# Altium integrated library HARTING DIN 41612 Type M-Flat.IntLib: 12 symbols
Pins are listed as number, name and electrical type; pins without a type are passive.

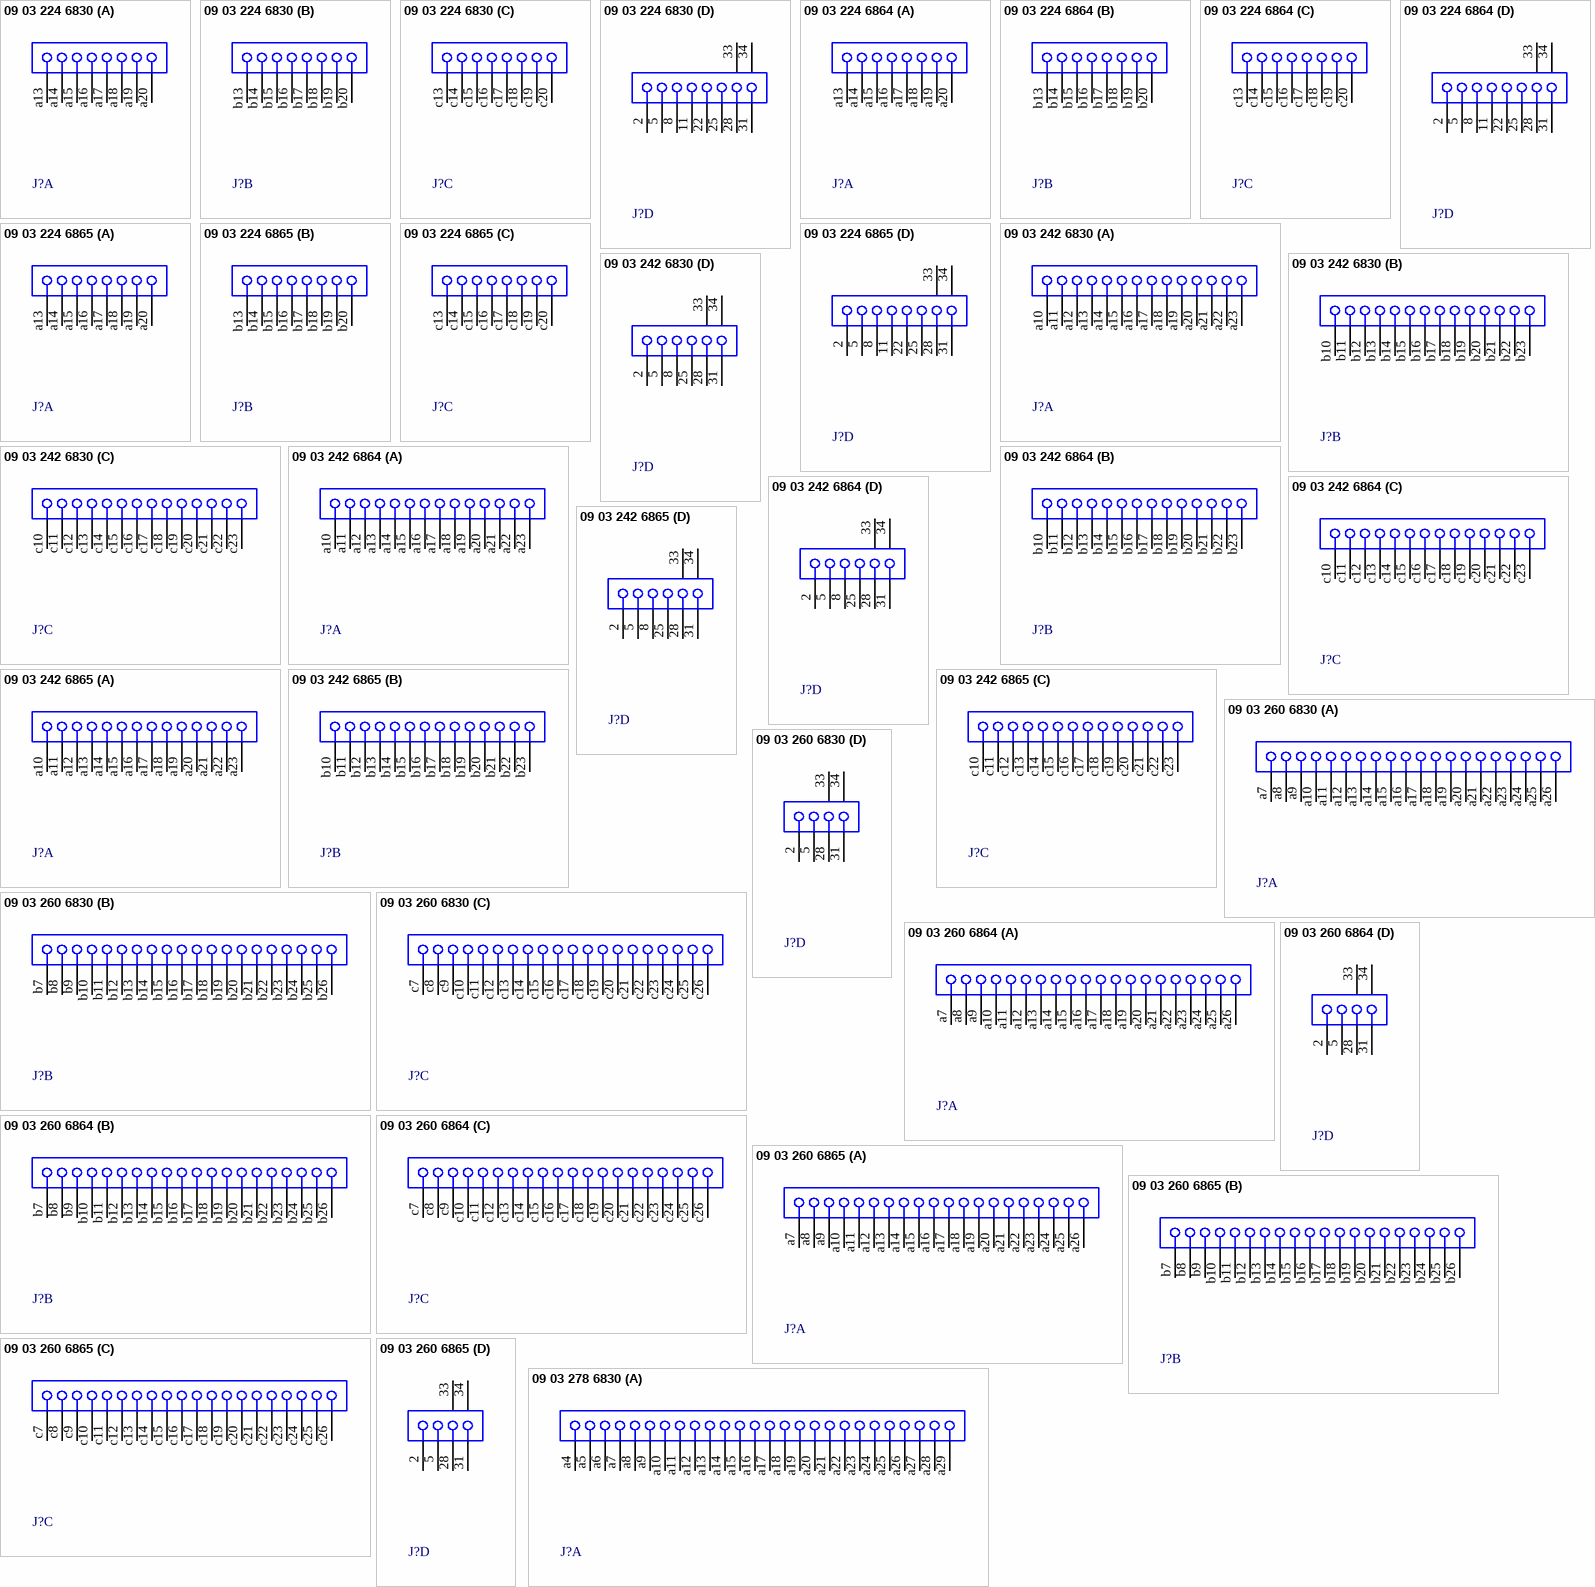
[diagram p0: symbols 09 03 224 6830 to 09 03 278 6830]

## 09 03 224 6830
designator J?
Eurocard DIN 41612, Type M-Flat, 24+8 High Current/Coax, Rows a+b+c, Performance level 2, Female, Lead 4.5 mm, Pitch 2.54 mm; Note: Hole Diameter is to be co-ordinated with the respective contact; DrillSize: Corresponds to nominal value.; Published: 6-Oct-2005; DatasheetDocument: 03-Jun-2003; PackageDocument: 12-Feb-2003; PackageReference: 0903224x830; Publisher: Altium Limited; ComponentLink1Description: Manufacturer Link; ComponentLink1URL: http://www.harting.com/; ComponentLink2Description: Packaging Specification; ComponentLink2URL: http://www.harkis.harting.com/_gds/pdf/TB_0903224x830_BL01_R30278.pdf
footprint 0903224x830 (Connector; DIN 41612, Type M-Flat, Thru-Hole; Rows a+b+c, 24 Position; Vertical)
signal-integrity model DIN 41612
part A pins: a13, a14, a15, a16, a17, a18, a19, a20
part B pins: b13, b14, b15, b16, b17, b18, b19, b20
part C pins: c13, c14, c15, c16, c17, c18, c19, c20
part D pins: 2, 5, 8, 11, 22, 25, 28, 31, 33 MH1, 34 MH2

## 09 03 224 6864
designator J?
Eurocard DIN 41612, Type M-Flat, 24+8 High Current/Coax, Rows a+b+c, Performance level 2, Female, Lead 2.9 mm, Pitch 2.54 mm; Note: Hole Diameter is to be co-ordinated with the respective contact; DrillSize: Corresponds to nominal value.; Published: 6-Oct-2005; DatasheetDocument: 02-Jun-2003; PackageDocument: 12-Feb-2003; PackageReference: 0903224x864; Publisher: Altium Limited; ComponentLink1Description: Manufacturer Link; ComponentLink1URL: http://www.harting.com/; ComponentLink2Description: Packaging Specification; ComponentLink2URL: http://www.harkis.harting.com/_gds/pdf/TB_0903224x864_BL01_R30278.pdf
footprint 0903224x864 (Connector; DIN 41612, Type M-Flat, Thru-Hole; Rows a+b+c, 24 Position; Vertical)
signal-integrity model DIN 41612
part A pins: a13, a14, a15, a16, a17, a18, a19, a20
part B pins: b13, b14, b15, b16, b17, b18, b19, b20
part C pins: c13, c14, c15, c16, c17, c18, c19, c20
part D pins: 2, 5, 8, 11, 22, 25, 28, 31, 33 MH1, 34 MH2

## 09 03 224 6865
designator J?
Eurocard DIN 41612, Type M-Flat, 24+8 High Current/Coax, Rows a+b+c, Performance level 2, Female, Lead 4.5 mm, Pitch 2.54 mm; Note: Hole Diameter is to be co-ordinated with the respective contact; DrillSize: Corresponds to nominal value.; Published: 6-Oct-2005; DatasheetDocument: 02-Jun-2003; PackageDocument: 13-Feb-2003; PackageReference: 0903224x865; Publisher: Altium Limited; ComponentLink1Description: Manufacturer Link; ComponentLink1URL: http://www.harting.com/; ComponentLink2Description: Packaging Specification; ComponentLink2URL: http://www.harkis.harting.com/_gds/pdf/TB_0903224x865_BL01_R30278.pdf
footprint 0903224x865 (Connector; DIN 41612, Type M-Flat, Thru-Hole; Rows a+b+c, 24 Position; Vertical)
signal-integrity model DIN 41612
part A pins: a13, a14, a15, a16, a17, a18, a19, a20
part B pins: b13, b14, b15, b16, b17, b18, b19, b20
part C pins: c13, c14, c15, c16, c17, c18, c19, c20
part D pins: 2, 5, 8, 11, 22, 25, 28, 31, 33 MH1, 34 MH2

## 09 03 242 6830
designator J?
Eurocard DIN 41612, Type M-Flat, 42+6 High Current/Coax, Rows a+b+c, Performance level 2, Female, Lead 4.5 mm, Pitch 2.54 mm; Note: Hole Diameter is to be co-ordinated with the respective contact; DrillSize: Corresponds to nominal value.; Published: 6-Oct-2005; DatasheetDocument: 03-Jun-2003; PackageDocument: 03-Jun-2003; PackageReference: 0903242x830; Publisher: Altium Limited; ComponentLink1Description: Manufacturer Link; ComponentLink1URL: http://www.harting.com/
footprint 0903242x830 (Connector; DIN 41612, Type M-Flat, Thru-Hole; Rows a+b+c, 42 Position; Vertical)
signal-integrity model DIN 41612
part A pins: a10, a11, a12, a13, a14, a15, a16, a17, a18, a19, a20, a21, a22, a23
part B pins: b10, b11, b12, b13, b14, b15, b16, b17, b18, b19, b20, b21, b22, b23
part C pins: c10, c11, c12, c13, c14, c15, c16, c17, c18, c19, c20, c21, c22, c23
part D pins: 2, 5, 8, 25, 28, 31, 33 MH1 "Mounting Fixture", 34 MH2 "Mounting Fixture"

## 09 03 242 6864
designator J?
Eurocard DIN 41612, Type M-Flat, 42+6 High Current/Coax, Rows a+b+c, Performance level 2, Female, Lead 2.9 mm, Pitch 2.54 mm; Note: Hole Diameter is to be co-ordinated with the respective contact; DrillSize: Corresponds to nominal value.; Published: 6-Oct-2005; DatasheetDocument: 02-Jun-2003; PackageDocument: 02-Jun-2003; PackageReference: 0903242x864; Publisher: Altium Limited; ComponentLink1Description: Manufacturer Link; ComponentLink1URL: http://www.harting.com/; ComponentLink2Description: Packaging Specification; ComponentLink2URL: http://www.harkis.harting.com/_gds/pdf/TB_0903242x864_BL01_R31344.pdf
footprint 0903242x864 (Connector; DIN 41612, Type M-Flat, Thru-Hole; Rows a+b+c, 42 Position; Vertical)
signal-integrity model DIN 41612
part A pins: a10, a11, a12, a13, a14, a15, a16, a17, a18, a19, a20, a21, a22, a23
part B pins: b10, b11, b12, b13, b14, b15, b16, b17, b18, b19, b20, b21, b22, b23
part C pins: c10, c11, c12, c13, c14, c15, c16, c17, c18, c19, c20, c21, c22, c23
part D pins: 2, 5, 8, 25, 28, 31, 33 MH1 "Mounting Fixture", 34 MH2 "Mounting Fixture"

## 09 03 242 6865
designator J?
Eurocard DIN 41612, Type M-Flat, 42+6 High Current/Coax, Rows a+b+c, Performance level 2, Female, Lead 4.5 mm, Pitch 2.54 mm; Note: Hole Diameter is to be co-ordinated with the respective contact; DrillSize: Corresponds to nominal value.; Published: 6-Oct-2005; DatasheetDocument: 02-Jun-2003; PackageDocument: 02-Jun-2003; PackageReference: 0903242x865; Publisher: Altium Limited; ComponentLink1Description: Manufacturer Link; ComponentLink1URL: http://www.harting.com/; ComponentLink2Description: Packaging Specification; ComponentLink2URL: http://www.harkis.harting.com/_gds/pdf/TB_0903242x865_BL01_R31344.pdf
footprint 0903242x865 (Connector; DIN 41612, Type M-Flat, Thru-Hole; Rows a+b+c, 42 Position; Vertical)
signal-integrity model DIN 41612
part A pins: a10, a11, a12, a13, a14, a15, a16, a17, a18, a19, a20, a21, a22, a23
part B pins: b10, b11, b12, b13, b14, b15, b16, b17, b18, b19, b20, b21, b22, b23
part C pins: c10, c11, c12, c13, c14, c15, c16, c17, c18, c19, c20, c21, c22, c23
part D pins: 2, 5, 8, 25, 28, 31, 33 MH1 "Mounting Fixture", 34 MH2 "Mounting Fixture"

## 09 03 260 6830
designator J?
Eurocard DIN 41612, Type M-Flat, 60+4 High Current/Coax, Rows a+b+c, Performance level 2, Female, Lead 4.5 mm, Pitch 2.54 mm; Note: Hole Diameter is to be co-ordinated with the respective contact; DrillSize: Corresponds to nominal value.; Published: 6-Oct-2005; DatasheetDocument: 03-Jun-2003; PackageDocument: 12-Feb-2003; PackageReference: 0903260x830; Publisher: Altium Limited; ComponentLink1Description: Manufacturer Link; ComponentLink1URL: http://www.harting.com/; ComponentLink2Description: Packaging Specification; ComponentLink2URL: http://www.harkis.harting.com/_gds/pdf/TB_0903260x830_BL01_R30320.pdf
footprint 0903260x830 (Connector; DIN 41612, Type M-Flat, Thru-Hole; Rows a+b+c, 60 Position; Vertical)
signal-integrity model DIN 41612
part A pins: a7, a8, a9, a10, a11, a12, a13, a14, a15, a16, a17, a18, a19, a20, a21, a22, a23, a24, a25, a26
part B pins: b7, b8, b9, b10, b11, b12, b13, b14, b15, b16, b17, b18, b19, b20, b21, b22, b23, b24, b25, b26
part C pins: c7, c8, c9, c10, c11, c12, c13, c14, c15, c16, c17, c18, c19, c20, c21, c22, c23, c24, c25, c26
part D pins: 2, 5, 28, 31, 33 MH1 "Mounting Fixture", 34 MH2 "Mounting Fixture"

## 09 03 260 6864
designator J?
Eurocard DIN 41612, Type M-Flat, 60+4 High Current/Coax, Rows a+b+c, Performance level 2, Female, Lead 2.9 mm, Pitch 2.54 mm; Note: Hole Diameter is to be co-ordinated with the respective contact; DrillSize: Corresponds to nominal value.; Published: 6-Oct-2005; DatasheetDocument: 02-Jun-2003; PackageDocument: 13-Feb-2003; PackageReference: 0903260x864; Publisher: Altium Limited; ComponentLink1Description: Manufacturer Link; ComponentLink1URL: http://www.harting.com/; ComponentLink2Description: Packaging Specification; ComponentLink2URL: http://www.harkis.harting.com/_gds/pdf/TB_0903260x864_BL01_R30320.pdf
footprint 0903260x864 (Connector; DIN 41612, Type M-Flat, Thru-Hole; Rows a+b+c, 60 Position; Vertical)
signal-integrity model DIN 41612
part A pins: a7, a8, a9, a10, a11, a12, a13, a14, a15, a16, a17, a18, a19, a20, a21, a22, a23, a24, a25, a26
part B pins: b7, b8, b9, b10, b11, b12, b13, b14, b15, b16, b17, b18, b19, b20, b21, b22, b23, b24, b25, b26
part C pins: c7, c8, c9, c10, c11, c12, c13, c14, c15, c16, c17, c18, c19, c20, c21, c22, c23, c24, c25, c26
part D pins: 2, 5, 28, 31, 33 MH1 "Mounting Fixture", 34 MH2 "Mounting Fixture"

## 09 03 260 6865
designator J?
Eurocard DIN 41612, Type M-Flat, 60+4 High Current/Coax, Rows a+b+c, Performance level 2, Female, Lead 4.5 mm, Pitch 2.54 mm; Note: Hole Diameter is to be co-ordinated with the respective contact; DrillSize: Corresponds to nominal value.; Published: 6-Oct-2005; DatasheetDocument: 02-Jun-2003; PackageDocument: 13-Feb-2003; PackageReference: 0903260x865; Publisher: Altium Limited; ComponentLink1Description: Manufacturer Link; ComponentLink1URL: http://www.harting.com/; ComponentLink2Description: Packaging Specification; ComponentLink2URL: http://www.harkis.harting.com/_gds/pdf/TB_0903260x865_BL01_R30320.pdf
footprint 0903260x865 (Connector; DIN 41612, Type M-Flat, Thru-Hole; Rows a+b+c, 60 Position; Vertical)
signal-integrity model DIN 41612
part A pins: a7, a8, a9, a10, a11, a12, a13, a14, a15, a16, a17, a18, a19, a20, a21, a22, a23, a24, a25, a26
part B pins: b7, b8, b9, b10, b11, b12, b13, b14, b15, b16, b17, b18, b19, b20, b21, b22, b23, b24, b25, b26
part C pins: c7, c8, c9, c10, c11, c12, c13, c14, c15, c16, c17, c18, c19, c20, c21, c22, c23, c24, c25, c26
part D pins: 2, 5, 28, 31, 33 MH1 "Mounting Fixture", 34 MH2 "Mounting Fixture"

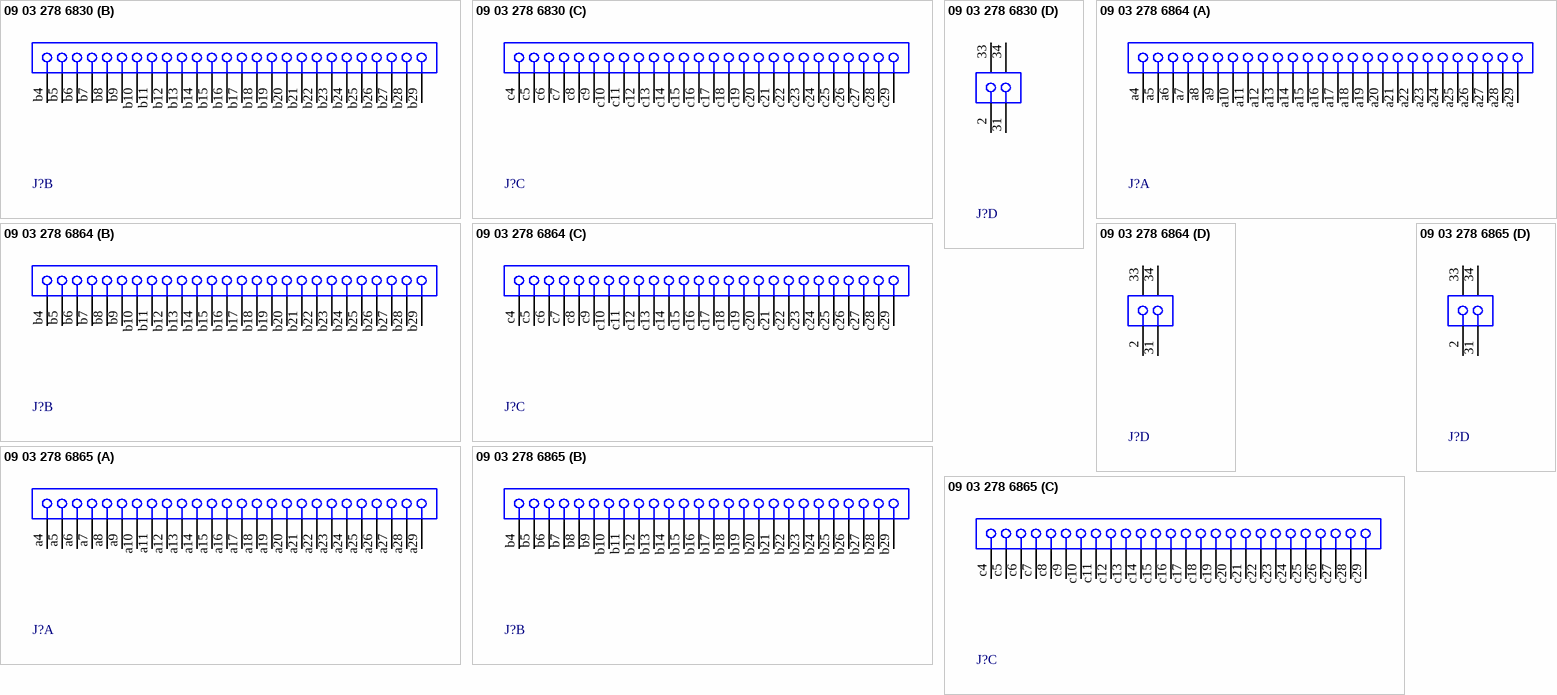
[diagram p1: symbols 09 03 278 6830 to 09 03 278 6865]

## 09 03 278 6830
designator J?
Eurocard DIN 41612, Type M-Flat, 78+2 High Current/Coax, Rows a+b+c, Performance level 2, Female, Lead 4.5 mm, Pitch 2.54 mm; Note: Hole Diameter is to be co-ordinated with the respective contact; DrillSize: Corresponds to nominal value.; Published: 6-Oct-2005; DatasheetDocument: 03-Jun-2003; PackageDocument: 03-Jun-2003; PackageReference: 0903278x830; Publisher: Altium Limited; ComponentLink1Description: Manufacturer Link; ComponentLink1URL: http://www.harting.com/; ComponentLink2Description: Packaging Specification; ComponentLink2URL: http://www.harkis.harting.com/_gds/pdf/TB_0903278x830_BL01_R31347.pdf
footprint 0903278x830 (Connector; DIN 41612, Type M-Flat, Thru-Hole; Rows a+b+c, 78 Position; Vertical)
signal-integrity model DIN 41612
part A pins: a4, a5, a6, a7, a8, a9, a10, a11, a12, a13, a14, a15, a16, a17, a18, a19, a20, a21, a22, a23, a24, a25, a26, a27, a28, a29
part B pins: b4, b5, b6, b7, b8, b9, b10, b11, b12, b13, b14, b15, b16, b17, b18, b19, b20, b21, b22, b23, b24, b25, b26, b27, b28, b29
part C pins: c4, c5, c6, c7, c8, c9, c10, c11, c12, c13, c14, c15, c16, c17, c18, c19, c20, c21, c22, c23, c24, c25, c26, c27, c28, c29
part D pins: 2, 31, 33 MH1 "Mounting Fixture", 34 MH2 "Mounting Fixture"

## 09 03 278 6864
designator J?
Eurocard DIN 41612, Type M-Flat, 78+2 High Current/Coax, Rows a+b+c, Performance level 2, Female, Lead 2.9 mm, Pitch 2.54 mm; Note: Hole Diameter is to be co-ordinated with the respective contact; DrillSize: Corresponds to nominal value.; Published: 6-Oct-2005; DatasheetDocument: 02-Jun-2003; PackageDocument: 02-Jun-2003; PackageReference: 0903278x864; Publisher: Altium Limited; ComponentLink1Description: Manufacturer Link; ComponentLink1URL: http://www.harting.com/; ComponentLink2Description: Packaging Specification; ComponentLink2URL: http://www.harkis.harting.com/_gds/pdf/TB_0903278x864_BL01_R31347.pdf
footprint 0903278x864 (Connector; DIN 41612, Type M-Flat, Thru-Hole; Rows a+b+c, 78 Position; Vertical)
signal-integrity model DIN 41612
part A pins: a4, a5, a6, a7, a8, a9, a10, a11, a12, a13, a14, a15, a16, a17, a18, a19, a20, a21, a22, a23, a24, a25, a26, a27, a28, a29
part B pins: b4, b5, b6, b7, b8, b9, b10, b11, b12, b13, b14, b15, b16, b17, b18, b19, b20, b21, b22, b23, b24, b25, b26, b27, b28, b29
part C pins: c4, c5, c6, c7, c8, c9, c10, c11, c12, c13, c14, c15, c16, c17, c18, c19, c20, c21, c22, c23, c24, c25, c26, c27, c28, c29
part D pins: 2, 31, 33 MH1 "Mounting Fixture", 34 MH2 "Mounting Fixture"

## 09 03 278 6865
designator J?
Eurocard DIN 41612, Type M-Flat, 78+2 High Current/Coax, Rows a+b+c, Performance level 2, Female, Lead 4.5 mm, Pitch 2.54 mm; Note: Hole Diameter is to be co-ordinated with the respective contact; DrillSize: Corresponds to nominal value.; Published: 6-Oct-2005; DatasheetDocument: 02-Jun-2003; PackageDocument: 02-Jun-2003; PackageReference: 0903278x865; Publisher: Altium Limited; ComponentLink1Description: Manufacturer Link; ComponentLink1URL: http://www.harting.com/; ComponentLink2Description: Packaging Specification; ComponentLink2URL: http://www.harkis.harting.com/_gds/pdf/TB_0903278x865_BL01_R31347.pdf
footprint 0903278x865 (Connector; DIN 41612, Type M-Flat, Thru-Hole; Rows a+b+c, 78 Position; Vertical)
signal-integrity model DIN 41612
part A pins: a4, a5, a6, a7, a8, a9, a10, a11, a12, a13, a14, a15, a16, a17, a18, a19, a20, a21, a22, a23, a24, a25, a26, a27, a28, a29
part B pins: b4, b5, b6, b7, b8, b9, b10, b11, b12, b13, b14, b15, b16, b17, b18, b19, b20, b21, b22, b23, b24, b25, b26, b27, b28, b29
part C pins: c4, c5, c6, c7, c8, c9, c10, c11, c12, c13, c14, c15, c16, c17, c18, c19, c20, c21, c22, c23, c24, c25, c26, c27, c28, c29
part D pins: 2, 31, 33 MH1 "Mounting Fixture", 34 MH2 "Mounting Fixture"